# EAGLE library part TPS61090RSAR (library mbed-HDK-Power)
Boost Converter 2A Switch, 96% Efficient Boost
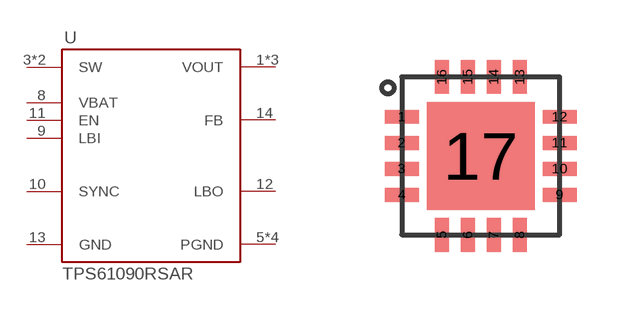
[diagram p3: symbol with the pads of QFN-16; footprint QFN-16]

Designator prefix U

## TPS61090RSAR (MF: Texas Instruments; MFN: TPS61090RSAR; OC-DIGIKEY: 296-15259-1-ND; OC-MOUSER: 595-TPS61090RSAR; OC-NEWARK: 73H4652)  [QFN-16]
1  VOUT
3  SW
4  SW
5  PGND
6  PGND
7  PGND
8  VBAT
9  LBI
10  SYNC
11  EN
12  LBO
13  GND
14  FB
15  VOUT
16  VOUT
17  PGND

## Footprint QFN-16 (pad centres in mm)
smd 0.85 x 0.35: 1 -1,2.95; 2 -1,2.3; 3 -1,1.65; 4 -1,1; 9 2.95,1; 10 2.95,1.65; 11 2.95,2.3; 12 2.95,2.95
smd 0.35 x 0.85: 5 0,0; 6 0.65,0; 7 1.3,0; 8 1.95,0; 13 1.95,3.95; 14 1.3,3.95; 15 0.65,3.95; 16 0,3.95
smd 2.7 x 2.7: 17 0.975,1.975